# Altium footprint library xNEO-16.PcbLib: 1 footprints
Each footprint in its own frame and in the unit in brackets; x right, y up, seen from the top. Pads: shape width x height; smd on the part's side, far side on the other; paste and mask are expansions set on the pad; w line width, h text height; cw(c..) or ccw(c..) is an arc to the next point about the centre after c.
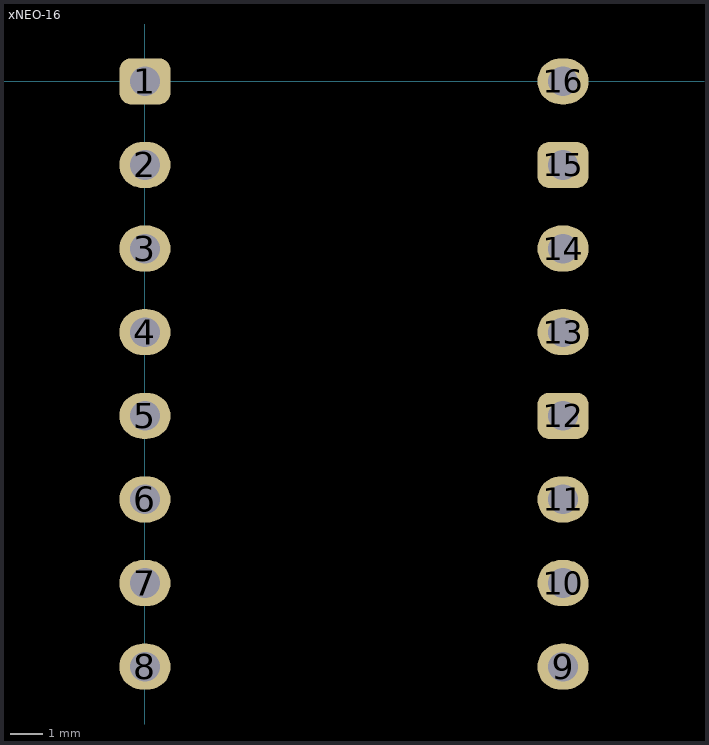
[diagram p0: the footprint, top view; thin cyan lines are the x and y axes]

## xNEO-16 [mm] "2.54mm"
pads (16):
  rrect50% 1.55x1.4 hole 0.9 mask+0: 1(0,0) 12(12.7,-10.16) 15(12.7,-2.54)
  oval 1.55x1.4 hole 0.9 mask+0: 2(0,-2.54) 3(0,-5.08) 4(0,-7.62) 5(0,-10.16) 6(0,-12.7) 7(0,-15.24) 8(0,-17.78) 9(12.7,-17.78) 10(12.7,-15.24) 11(12.7,-12.7) 13(12.7,-7.62) 14(12.7,-5.08) 16(12.7,0)